# Altium schematic symbol library SN74LVC1G07DCKR.Schlib: 1 symbol
Pins are listed as number, name and electrical type; pins without a type are passive.

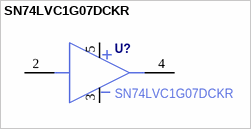
[diagram p0: symbol SN74LVC1G07DCKR]

## SN74LVC1G07DCKR
designator U?
Buffers & Line Drivers Single Buffer/Driver; Manufacturer Part Number: SN74LVC1G07DCKR
pins: 2 A, 3 GND, 4 Y, 5 VCC